# Altium footprint library altium-designer-library.PcbLib: 26 footprints (part 1 of 2)
Each footprint in its own frame and in the unit in brackets; x right, y up, seen from the top. Pads: shape width x height; smd on the part's side, far side on the other; paste and mask are expansions set on the pad; w line width, h text height; cw(c..) or ccw(c..) is an arc to the next point about the centre after c.
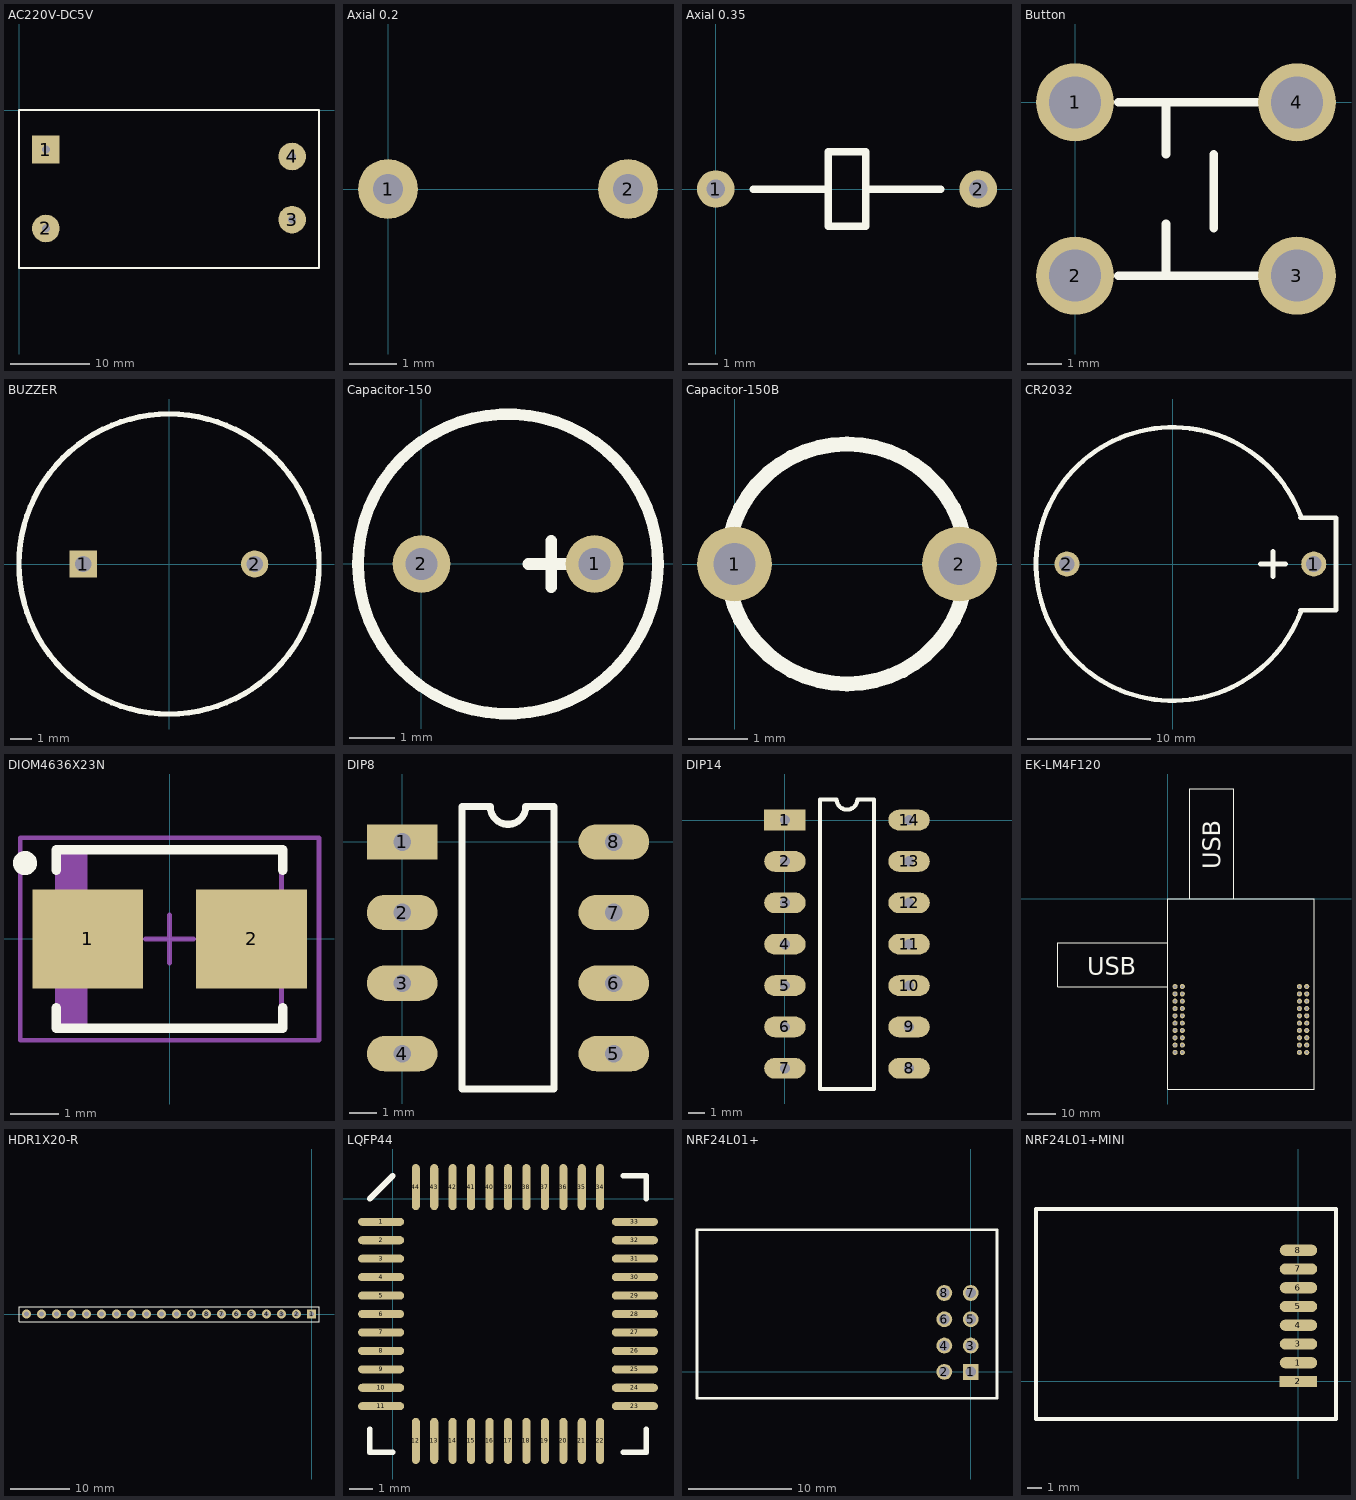
[diagram p0: the footprints below, top view; thin cyan lines are the x and y axes]

## AC220V-DC5V [mm]
pads (4):
  rect 3.5x3.5 hole 1.016: 1(3.4,-5)
  round 3.5 hole 1.016: 2(3.4,-15) 3(34.6,-13.88) 4(34.6,-5.88)
Top Overlay:
  lines w0.254: 0,-20 0,0 38,0 38,-20 0,-20

## Axial 0.2 [mil]
pads (2):
  round 50 hole 25: 1(0,0) 2(200,0)

## Axial 0.35 [mil]
pads (2):
  round 50 hole 25: 1(0,0) 2(350,0)
Top Overlay:
  lines w10: 50,0 150,0 ; 200,0 300,0 ; 150,0 150,-50 200,-50 200,50 150,50 150,0

## Button [mil]
height 250
pads (4):
  round 90 hole 60: 1(0,0) 2(0,-200) 3(256,-200) 4(256,0)
Top Overlay:
  lines w10: 50,-200 210,-200 ; 50,0 210,0 ; 105,-195 105,-140 ; 105,-60 105,-5 ; 160,-145 160,-60

## BUZZER [mil]
pads (2):
  rect 50x50 hole 30: 1(-157.48,0)
  round 50 hole 30: 2(157.48,0)
Top Overlay:
  circle w10: c0,0 r275.59

## Capacitor-150 [mil]
pads (2):
  round 50 hole 28: 1(150,0) 2(0,0)
Top Overlay:
  circle w10: c75,0 r130
  lines w10: 92.5,0 132.5,0 ; 112.5,-20 112.5,20

## Capacitor-150B [mil]
pads (2):
  round 50 hole 28: 1(0,0) 2(150,0)
Top Overlay:
  circle w10: c75,0 r80

## CR2032 [mil]
pads (2):
  round 80 hole 50: 1(450,0) 2(-337.5,0)
Top Overlay:
  lines w15: 280,0 360,0 ; 320,-40 320,40 ; 408,-148 521,-148 521,148 408,148 ; 409.71,-149.12 cw(c0,0) 409.71,149.12

## DIOM4636X23N [mm] "Molded Diode, 2-Leads, Body 4.6x3.6mm, IPC Medium Density"
height 2.3
pads (2):
  rect 2.3x2.05 smd: 1(-1.7,0) 2(1.7,0)
Top Overlay:
  circle w0.25: c-3,1.575 r0.125
  lines w0.2: -2.35,-1.425 -2.35,-1.85 2.35,-1.85 2.35,-1.425 ; -2.35,1.425 -2.35,1.85 2.35,1.85 2.35,1.425
Mechanical 13:
  rectangle: -2.325,-1.825 -1.7,1.825
  lines w0.1: -2.325,-1.825 -2.325,1.825 2.325,1.825 2.325,-1.825 -2.325,-1.825
Mechanical 15:
  lines w0.1: -0.5,0 0.5,0 ; 0,-0.5 0,0.5 ; -3.1,-2.1 -3.1,2.1 3.1,2.1 3.1,-2.1 -3.1,-2.1
3D body: height 2.3, standoff 0, extent -2.325,-1.825 2.325,1.825

## DIP8 [mil]
pads (8):
  rect 100x50 hole 25: 1(0,0)
  oval 100x50 hole 25: 2(0,-100) 3(0,-200) 4(0,-300) 5(300,-300) 6(300,-200) 7(300,-100) 8(300,0)
Top Overlay:
  lines w10: 85,-350 85,50 125,50 ccw(c150,50) 175,50 215,50 215,-350 85,-350

## DIP14 [mil]
pads (14):
  rect 100x50 hole 25: 1(0,0)
  oval 100x50 hole 25: 2(0,-100) 3(0,-200) 4(0,-300) 5(0,-400) 6(0,-500) 7(0,-600) 8(300,-600) 9(300,-500) 10(300,-400) 11(300,-300) 12(300,-200) 13(300,-100) 14(300,0)
Top Overlay:
  lines w10: 85,-650 215,-650 215,50 175,50 cw(c150,50) 125,50 85,50 85,-650

## EK-LM4F120 [mil]
pads (40):
  round 70 hole 35: 1(100,-1200) 2(100,-1300) 3(100,-1400) 4(100,-1500) 5(100,-1600) 6(100,-1700) 7(100,-1800) 8(100,-1900) 9(100,-2000) 10(100,-2100) 11(1900,-1200) 12(1900,-1300) 13(1900,-1400) 14(1900,-1500) 15(1900,-1600) 16(1900,-1700) 17(1900,-1800) 18(1900,-1900) 19(1900,-2000) 20(1900,-2100) 21(200,-1200) 22(200,-1300) 23(200,-1400) 24(200,-1500) 25(200,-1600) 26(200,-1700) 27(200,-1800) 28(200,-1900) 29(200,-2000) 30(200,-2100) 31(1800,-1200) 32(1800,-1300) 33(1800,-1400) 34(1800,-1500) 35(1800,-1600) 36(1800,-1700) 37(1800,-1800) 38(1800,-1900) 39(1800,-2000) 40(1800,-2100)
Top Overlay:
  lines w10: 0,-1200 -1500,-1200 -1500,-600 0,-600 ; 300,0 300,820 300,1300 300,1500 900,1500 900,0 ; 0,-2600 0,0 2000,0 2000,-2600 0,-2600
  text "USB" at 720,400 h240
  text "USB" at -1100,-1040 h240

## HDR1X20-R [mm] "Connector; Header; 20 Position"
pads (20):
  rect 1.5x1.5 hole 0.9: 1(0,0)
  round 1.5 hole 0.9: 2(-2.54,0) 3(-5.08,0) 4(-7.62,0) 5(-10.16,0) 6(-12.7,0) 7(-15.24,0) 8(-17.78,0) 9(-20.32,0) 10(-22.86,0) 11(-25.4,0) 12(-27.94,0) 13(-30.48,0) 14(-33.02,0) 15(-35.56,0) 16(-38.1,0) 17(-40.64,0) 18(-43.18,0) 19(-45.72,0) 20(-48.26,0)
Top Overlay:
  lines w0.2: -49.53,-1.27 -0.635,-1.27 1.27,-1.27 1.27,1.27 -49.53,1.27 -49.53,-1.27

## LQFP44 [mm]
pads (44):
  oval 2x0.35 smd: 1(-0.508,-1) 2(-0.508,-1.8) 3(-0.508,-2.6) 4(-0.508,-3.4) 5(-0.508,-4.2) 6(-0.508,-5) 7(-0.508,-5.8) 8(-0.508,-6.6) 9(-0.508,-7.4) 10(-0.508,-8.2) 11(-0.508,-9) 23(10.508,-9) 24(10.508,-8.2) 25(10.508,-7.4) 26(10.508,-6.6) 27(10.508,-5.8) 28(10.508,-5) 29(10.508,-4.2) 30(10.508,-3.4) 31(10.508,-2.6) 32(10.508,-1.8) 33(10.508,-1)
  oval 0.35x2 smd: 12(1,-10.508) 13(1.8,-10.508) 14(2.6,-10.508) 15(3.4,-10.508) 16(4.2,-10.508) 17(5,-10.508) 18(5.8,-10.508) 19(6.6,-10.508) 20(7.4,-10.508) 21(8.2,-10.508) 22(9,-10.508) 34(9,0.508) 35(8.2,0.508) 36(7.4,0.508) 37(6.6,0.508) 38(5.8,0.508) 39(5,0.508) 40(4.2,0.508) 41(3.4,0.508) 42(2.6,0.508) 43(1.8,0.508) 44(1,0.508)
Top Overlay:
  lines w0.254: -1,0 0,1 ; 0,-11 -1,-11 ; 10,-11 11,-11 ; 11,-10 11,-11 ; 11,0 11,1 10,1 ; -1,-11 -1,-10 ; -1,-11 -1,-11 ; -1,-10 -1,-10 ; 10,1 10,1 ; 11,-11 11,-11

## NRF24L01+ [mil]
pads (8):
  rect 60x60 hole 40: 1(0,0)
  round 60 hole 40: 2(-100,0) 3(0,100) 4(-100,100) 5(0,200) 6(-100,200) 7(0,300) 8(-100,300)
Top Overlay:
  lines w10: -1040,-100 -1040,540 100,540 100,-100 -1040,-100

## NRF24L01+MINI [mil]
pads (8):
  oval 100x30 smd: 1(0,50) 3(0,100) 4(0,150) 5(0,200) 6(0,250) 7(0,300) 8(0,350)
  rect 100x30 smd: 2(0,0)
Top Overlay:
  lines w10: -700,-100 100,-100 100,460 -600,460 -700,460 -700,-100